# Altium footprint library PCB_PassiveCap.PcbLib: 9 footprints
Each footprint in its own frame and in the unit in brackets; x right, y up, seen from the top. Pads: shape width x height; smd on the part's side, far side on the other; paste and mask are expansions set on the pad; w line width, h text height; cw(c..) or ccw(c..) is an arc to the next point about the centre after c.
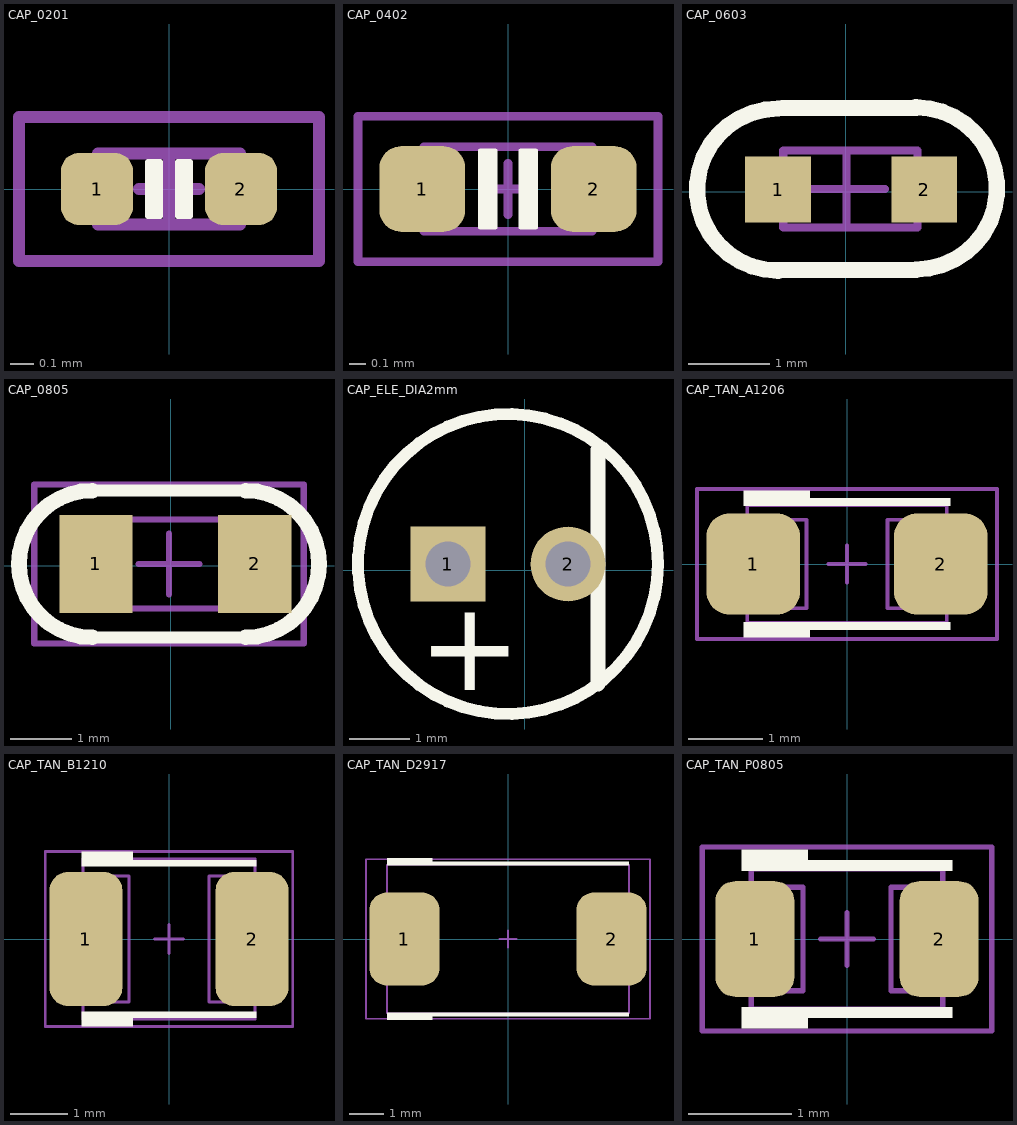
[diagram p0: the footprints below, top view; thin cyan lines are the x and y axes]

## CAP_0201 [mil]
height 15.75
pads (2):
  rrect50% 12x12 smd: 1(-12,0) 2(12,0)
Top Overlay:
  region: -3.5,-4.5 -3.5,4.5 -1.5,4.5 -1.5,-4.5
  region: 3.5,4.5 3.5,-4.5 1.5,-4.5 1.5,4.5
  lines w1: -3.5,-4.5 -1.5,-4.5 -1.5,4.5 -3.5,4.5 -3.5,-4.5 ; 1.5,-4.5 1.5,4.5 3.5,4.5 3.5,-4.5 1.5,-4.5
Mechanical 13:
  lines w2: -5,0 5,0 ; 0,-5 0,5 ; -11.81,-5.91 -11.81,5.91 11.81,5.91 11.81,-5.91 -11.81,-5.91
T-Component:
  lines w2: -25,-12 -25,12 25,12 25,-12 -25,-12
3D body "CAPC0603X03L.step": height 11.81, standoff 0, extent -11.81,-5.9 11.81,5.91

## CAP_0402 [mil]
height 21.65
pads (2):
  rrect50% 20x20 smd: 1(-20,0) 2(20,0)
Top Overlay:
  region: -6.5,9 -3,9 -3,-9 -6.5,-9
  region: 6.5,-9 3,-9 3,9 6.5,9
  lines w1: -6.5,-9 -3,-9 -3,9 -6.5,9 -6.5,-9 ; 3,-9 3,9 6.5,9 6.5,-9 3,-9
Mechanical 13:
  lines w2: -6,0 6,0 ; 0,-6 0,6 ; -19.69,-9.84 -19.69,9.84 19.68,9.84 19.68,-9.84 -19.69,-9.84
T-Component:
  lines w2: -35,-17 -35,17 35,17 35,-17 -35,-17
3D body "CAPC1005X05L.step": height 19.68, standoff 0, extent -19.68,-9.84 19.69,9.85

## CAP_0603 [mil]
height 31.5
pads (2):
  rect 32x32 smd: 1(-33,1) 2(38,1)
Top Overlay:
  lines w7.87: -35,-38.07 34,-38.07 ; -33,-38.37 cw(c-33,1) -33,40.37 ; -31,40.67 34,40.67 ; 34,-37.74 ccw(c34,1.63) 34,41
Mechanical 13:
  lines w3.94: -30.49,-17.4 34.67,-17.4 34.67,20 -30.49,20 -30.49,-17.4
B-Component:
  lines w3.94: -18.48,1.3 18.93,1.3 ; 0.23,-17.4 0.23,20
3D body "CAPC1608X08L.step": height 31.5, standoff 0, extent -30.49,-13.74 32.5,17.75

## CAP_0805 [mil]
height 47.24
pads (2):
  rect 47.24x62.99 smd: 1(-48,1) 2(54,1)
Top Overlay:
  lines w7.87: -50.27,-46.26 48.15,-46.26 ; -50.27,48.23 48.15,48.23
  lines w10: -50.27,-46.26 cw(c-50.27,0.99) -50.27,48.23 ; 48.15,-46.26 ccw(c48.15,0.99) 48.15,48.23
Mechanical 13:
  lines w3.94: -44.36,-27.55 42.25,-27.55 42.25,29.53 -44.36,29.53 -44.36,-27.55
B-Component:
  lines w3.94: -20.74,0.99 18.63,0.99 ; -1.06,-18.7 -1.06,20.67 ; -87.67,-50.19 85.56,-50.19 85.56,52.17 -87.67,52.17 -87.67,-50.19
3D body "CAPC2012X10L.step": height 39.37, standoff 0, extent -42.37,-25 36.37,24.21

## CAP_ELE_DIA2mm [mm]
pads (2):
  rect 1.25x1.25 hole 0.75: 1(-1.281,0.103)
  round 1.25 hole 0.75: 2(0.719,0.103)
Top Overlay:
  circle w0.2: c-0.281,0.103 r2.5
  lines w0.254: 1.219,-1.897 1.219,2.003
  text "+" at -1.781,-1.997 h1.5

## CAP_TAN_A1206 [mil]
height 70.87
pads (2):
  rrect50% 50x54 smd: 1(-50,0) 2(50,0)
Top Overlay:
  region: 55,-35 -20,-35 -20,-39 -55,-39 -55,-31 55,-31
  region: 55,31 -55,31 -55,39 -20,39 -20,35 55,35
Mechanical 13:
  lines w2: -10,0 10,0 ; 0,-10 0,10 ; -63,-23.63 -63,23.62 -21.66,23.62 -21.66,-23.63 -63,-23.63 ; -53.16,-31.5 53.15,-31.5 53.15,31.5 -53.16,31.5 -53.16,-31.5 ; 21.65,-23.62 21.65,23.62 62.99,23.62 62.99,-23.62 21.65,-23.62
T-Component:
  lines w2: -80,-40 80,-40 80,40 -80,40 -80,-40
3D body "CAPMP3216X180N.STEP": height 70.87, standoff 0, extent -62.99,-31.49 63,31.5

## CAP_TAN_B1210 [mil]
height 82.68
pads (2):
  rrect50% 50x92 smd: 1(-57,0) 2(57,0)
Top Overlay:
  region: 60,50 -60,50 -60,60 -25,60 -25,54 60,54
  region: 60,-54 -25,-54 -25,-60 -60,-60 -60,-50 60,-50
Mechanical 13:
  lines w2: -10,0 10,0 ; 0,-10 0,10 ; -68.89,-43.3 -27.55,-43.3 -27.55,43.31 -68.89,43.31 -68.89,-43.3 ; -59.06,-55.11 -59.06,55.12 59.05,55.12 59.05,-55.11 -59.06,-55.11 ; 27.56,-43.31 27.56,43.31 68.9,43.31 68.9,-43.31 27.56,-43.31
T-Component:
  lines w2: -85,-60 85,-60 85,60 -85,60 -85,-60
3D body "CAPMP3528X210N.STEP": height 82.68, standoff 0, extent -68.89,-55.11 68.91,55.13

## CAP_TAN_D2917 [mil]
height 122.05
pads (2):
  rrect50% 80x106 smd: 1(-118,0) 2(118,0)
Top Overlay:
  region: 137.8,84 -137.8,84 -137.8,92 -86.61,92 -86.61,88 137.8,88
  region: 137.8,-88 -86.61,-88 -86.61,-92 -137.8,-92 -137.8,-84 137.8,-84
Mechanical 13:
  lines w2: -10,0 10,0 ; 0,-10 0,10 ; -143.7,-47.24 -86.61,-47.24 -86.61,47.24 -143.7,47.24 -143.7,-47.24 ; -137.8,-84.65 -137.8,84.65 137.8,84.65 137.8,-84.65 -137.8,-84.65 ; 86.61,-47.24 86.61,47.24 143.7,47.24 143.7,-47.24 86.61,-47.24
T-Component:
  lines w2: -162,-91 -162,91 162,91 162,-91 -162,-91
3D body "CAPMP7343X310N.STEP": height 122.05, standoff 0, extent -149.6,-77.75 149.61,77.76

## CAP_TAN_P0805 [mil]
height 59.06
pads (2):
  rrect50% 30x44 smd: 1(-35,0) 2(35,0)
Top Overlay:
  region: 40,26 -40,26 -40,34 -15,34 -15,30 40,30
  region: 40,-30 -15,-30 -15,-34 -40,-34 -40,-26 40,-26
Mechanical 13:
  lines w2: -10,0 10,0 ; 0,-10 0,10 ; -40.35,-19.68 -16.73,-19.68 -16.73,19.68 -40.35,19.68 -40.35,-19.68 ; -36.42,-26.57 -36.42,26.57 36.42,26.57 36.42,-26.57 -36.42,-26.57 ; 16.73,-19.68 40.35,-19.68 40.35,19.68 16.73,19.68 16.73,-19.68
T-Component:
  lines w2: -55,-35 55,-35 55,35 -55,35 -55,-35
3D body "CAPMP2012X150N.STEP": height 59.06, standoff 0, extent -40.35,-26.57 40.36,26.58